# Altium footprint library DM3AT-SF-PEJM5.PcbLib: 1 footprints
Each footprint in its own frame and in the unit in brackets; x right, y up, seen from the top. Pads: shape width x height; smd on the part's side, far side on the other; paste and mask are expansions set on the pad; w line width, h text height; cw(c..) or ccw(c..) is an arc to the next point about the centre after c.
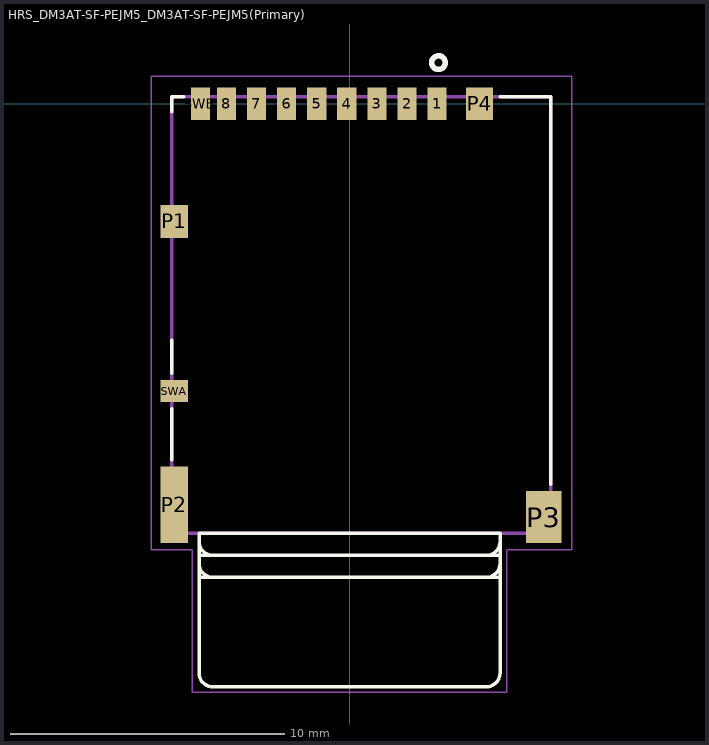
[diagram p0: the footprint, top view; thin cyan lines are the x and y axes]

## HRS_DM3AT-SF-PEJM5_DM3AT-SF-PEJM5(Primary) [mm]
pads (14):
  rect 0.7x1.2 smd paste-25.4 mask-25.4: 1(3.2,0) 2(2.1,0) 3(1,0) 4(-0.1,0) 5(-1.2,0) 6(-2.3,0) 7(-3.4,0) 8(-4.5,0) SWB(-5.45,0)
  rect 1x1.2 smd paste-25.4 mask-25.4: P1(-6.4,-4.3) P4(4.75,0)
  rect 1x2.8 smd paste-25.4 mask-25.4: P2(-6.4,-14.65)
  rect 1.3x1.9 smd paste-25.4 mask-25.4: P3(7.1,-15.1)
  rect 1x0.8 smd paste-25.4 mask-25.4: SWA(-6.4,-10.5)
Top Overlay:
  circle w0.2: c3.25,1.5 r0.25
  lines w0.127: -6.5,-13 -6.5,-11.15 ; -6.5,-9.85 -6.5,-8.65 ; -6.5,-0.3 -6.5,0.25 -6.05,0.25 ; 5.5,0.25 7.35,0.25 7.35,-13.9 ; -5.5,-17.3 -5.5,-20.8 ccw(c-5,-20.8) -5,-21.3 5,-21.3 ccw(c5,-20.8) 5.5,-20.8 5.5,-17.3 ; -5.5,-17.3 -5.5,-16.8 ; -5.5,-17.3 -5,-17.3 ; -5.5,-16.8 ccw(c-5,-16.8) -5,-17.3 ; -5.5,-16.8 -5.5,-16.5 ; -5.5,-16.5 -5.5,-16 ; -5.5,-16.5 -5,-16.5 ; -5.5,-16 ccw(c-5,-16) -5,-16.5 ; -5.5,-16 -5.5,-15.7 5.5,-15.7 5.5,-16 ; -5,-17.3 5,-17.3 ; -5,-16.5 5,-16.5 ; 5,-17.3 ccw(c5,-16.8) 5.5,-16.8 ; 5,-17.3 5.5,-17.3 ; 5,-16.5 ccw(c5,-16) 5.5,-16 ; 5,-16.5 5.5,-16.5 ; 5.5,-17.3 5.5,-16.8 ; 5.5,-16.8 5.5,-16.5 ; 5.5,-16.5 5.5,-16
Top Paste:
  region: 6.45,-16.05 7.75,-16.05 7.75,-14.15 6.45,-14.15
  region: -6.9,-16.05 -5.9,-16.05 -5.9,-13.25 -6.9,-13.25
  region: -6.9,-10.9 -5.9,-10.9 -5.9,-10.1 -6.9,-10.1
  region: -6.9,-4.9 -5.9,-4.9 -5.9,-3.7 -6.9,-3.7
  region: 4.25,-0.6 5.25,-0.6 5.25,0.6 4.25,0.6
  region: -5.8,-0.6 -5.1,-0.6 -5.1,0.6 -5.8,0.6
  region: -4.85,-0.6 -4.15,-0.6 -4.15,0.6 -4.85,0.6
  region: -3.75,-0.6 -3.05,-0.6 -3.05,0.6 -3.75,0.6
  region: -2.65,-0.6 -1.95,-0.6 -1.95,0.6 -2.65,0.6
  region: -1.55,-0.6 -0.85,-0.6 -0.85,0.6 -1.55,0.6
  region: -0.45,-0.6 0.25,-0.6 0.25,0.6 -0.45,0.6
  region: 0.65,-0.6 1.35,-0.6 1.35,0.6 0.65,0.6
  region: 1.75,-0.6 2.45,-0.6 2.45,0.6 1.75,0.6
  region: 2.85,-0.6 3.55,-0.6 3.55,0.6 2.85,0.6
Top Solder:
  region: 6.35,-16.15 7.85,-16.15 7.85,-14.05 6.35,-14.05
  region: -7,-16.15 -5.8,-16.15 -5.8,-13.15 -7,-13.15
  region: -7,-11 -5.8,-11 -5.8,-10 -7,-10
  region: -7,-5 -5.8,-5 -5.8,-3.6 -7,-3.6
  region: 4.15,-0.7 5.35,-0.7 5.35,0.7 4.15,0.7
  region: -5.9,-0.7 -5,-0.7 -5,0.7 -5.9,0.7
  region: -4.95,-0.7 -4.05,-0.7 -4.05,0.7 -4.95,0.7
  region: -3.85,-0.7 -2.95,-0.7 -2.95,0.7 -3.85,0.7
  region: -2.75,-0.7 -1.85,-0.7 -1.85,0.7 -2.75,0.7
  region: -1.65,-0.7 -0.75,-0.7 -0.75,0.7 -1.65,0.7
  region: -0.55,-0.7 0.35,-0.7 0.35,0.7 -0.55,0.7
  region: 0.55,-0.7 1.45,-0.7 1.45,0.7 0.55,0.7
  region: 1.65,-0.7 2.55,-0.7 2.55,0.7 1.65,0.7
  region: 2.75,-0.7 3.65,-0.7 3.65,0.7 2.75,0.7
Mechanical 1:
  lines w0.05: -7.25,-16.3 -7.25,1 8.125,1 8.125,-16.3 5.75,-16.3 5.75,-21.5 -5.75,-21.5 -5.75,-16.3 -7.25,-16.3
  lines w0.127: -6.5,-15.7 -6.5,0.25 7.35,0.25 7.35,-15.7 -6.5,-15.7